# Altium footprint library Texas Instruments Footprints.PcbLib: 429 footprints (part 14 of 32)
Each footprint in its own frame and in the unit in brackets; x right, y up, seen from the top. Pads: shape width x height; smd on the part's side, far side on the other; paste and mask are expansions set on the pad; w line width, h text height; cw(c..) or ccw(c..) is an arc to the next point about the centre after c.
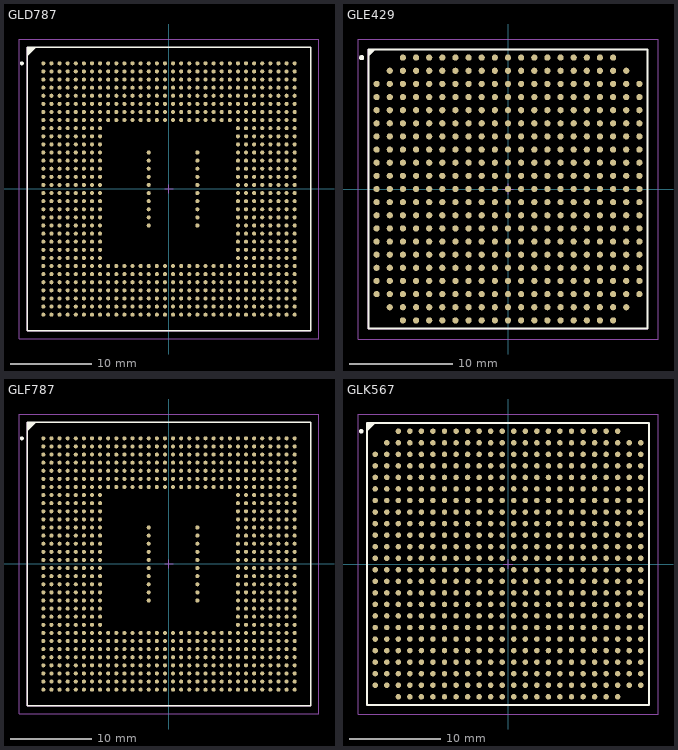
[diagram p13: the footprints below, top view; thin cyan lines are the x and y axes]

## GLD787 [mm] "772-Ball Ball Grid Array 1 mm Pitch"
height 3.48
pads (772):
  round 0.5 smd: A1(-15.5,15.5) A2(-14.5,15.5) A3(-13.5,15.5) A4(-12.5,15.5) A5(-11.5,15.5) A6(-10.5,15.5) A7(-9.5,15.5) A8(-8.5,15.5) A9(-7.5,15.5) A10(-6.5,15.5) A11(-5.5,15.5) A12(-4.5,15.5) A13(-3.5,15.5) A14(-2.5,15.5) A15(-1.5,15.5) A16(-0.5,15.5) A17(0.5,15.5) A18(1.5,15.5) A19(2.5,15.5) A20(3.5,15.5) A21(4.5,15.5) A22(5.5,15.5) A23(6.5,15.5) A24(7.5,15.5) A25(8.5,15.5) A26(9.5,15.5) A27(10.5,15.5) A28(11.5,15.5) A29(12.5,15.5) A30(13.5,15.5) A31(14.5,15.5) A32(15.5,15.5) AA1(-15.5,-4.5) AA2(-14.5,-4.5) AA3(-13.5,-4.5) AA4(-12.5,-4.5) AA5(-11.5,-4.5) AA6(-10.5,-4.5) AA7(-9.5,-4.5) AA8(-8.5,-4.5) AA14(-2.5,-4.5) AA20(3.5,-4.5) AA25(8.5,-4.5) AA26(9.5,-4.5) AA27(10.5,-4.5) AA28(11.5,-4.5) AA29(12.5,-4.5) AA30(13.5,-4.5) AA31(14.5,-4.5) AA32(15.5,-4.5) AB1(-15.5,-5.5) AB2(-14.5,-5.5) AB3(-13.5,-5.5) AB4(-12.5,-5.5) AB5(-11.5,-5.5) AB6(-10.5,-5.5) AB7(-9.5,-5.5) AB8(-8.5,-5.5) AB25(8.5,-5.5) AB26(9.5,-5.5) AB27(10.5,-5.5) AB28(11.5,-5.5) AB29(12.5,-5.5) AB30(13.5,-5.5) AB31(14.5,-5.5) AB32(15.5,-5.5) AC1(-15.5,-6.5) AC2(-14.5,-6.5) AC3(-13.5,-6.5) AC4(-12.5,-6.5) AC5(-11.5,-6.5) AC6(-10.5,-6.5) AC7(-9.5,-6.5) AC8(-8.5,-6.5) AC25(8.5,-6.5) AC26(9.5,-6.5) AC27(10.5,-6.5) AC28(11.5,-6.5) AC29(12.5,-6.5) AC30(13.5,-6.5) AC31(14.5,-6.5) AC32(15.5,-6.5) AD1(-15.5,-7.5) AD2(-14.5,-7.5) AD3(-13.5,-7.5) AD4(-12.5,-7.5) AD5(-11.5,-7.5) AD6(-10.5,-7.5) AD7(-9.5,-7.5) AD8(-8.5,-7.5) AD25(8.5,-7.5) AD26(9.5,-7.5) AD27(10.5,-7.5) AD28(11.5,-7.5) AD29(12.5,-7.5) AD30(13.5,-7.5) AD31(14.5,-7.5) AD32(15.5,-7.5) AE1(-15.5,-8.5) AE2(-14.5,-8.5) AE3(-13.5,-8.5) AE4(-12.5,-8.5) AE5(-11.5,-8.5) AE6(-10.5,-8.5) AE7(-9.5,-8.5) AE8(-8.5,-8.5) AE25(8.5,-8.5) AE26(9.5,-8.5) AE27(10.5,-8.5) AE28(11.5,-8.5) AE29(12.5,-8.5) AE30(13.5,-8.5) AE31(14.5,-8.5) AE32(15.5,-8.5) AF1(-15.5,-9.5) AF2(-14.5,-9.5) AF3(-13.5,-9.5) AF4(-12.5,-9.5) AF5(-11.5,-9.5) AF6(-10.5,-9.5) AF7(-9.5,-9.5) AF8(-8.5,-9.5) AF9(-7.5,-9.5) AF10(-6.5,-9.5) AF11(-5.5,-9.5) AF12(-4.5,-9.5) AF13(-3.5,-9.5) AF14(-2.5,-9.5) AF15(-1.5,-9.5) AF16(-0.5,-9.5) AF17(0.5,-9.5) AF18(1.5,-9.5) AF19(2.5,-9.5) AF20(3.5,-9.5) AF21(4.5,-9.5) AF22(5.5,-9.5) AF23(6.5,-9.5) AF24(7.5,-9.5) AF25(8.5,-9.5) AF26(9.5,-9.5) AF27(10.5,-9.5) AF28(11.5,-9.5) AF29(12.5,-9.5) AF30(13.5,-9.5) AF31(14.5,-9.5) AF32(15.5,-9.5) AG1(-15.5,-10.5) AG2(-14.5,-10.5) AG3(-13.5,-10.5) AG4(-12.5,-10.5) AG5(-11.5,-10.5) AG6(-10.5,-10.5) AG7(-9.5,-10.5) AG8(-8.5,-10.5) AG9(-7.5,-10.5) AG10(-6.5,-10.5) AG11(-5.5,-10.5) AG12(-4.5,-10.5) AG13(-3.5,-10.5) AG14(-2.5,-10.5) AG15(-1.5,-10.5) AG16(-0.5,-10.5) AG17(0.5,-10.5) AG18(1.5,-10.5) AG19(2.5,-10.5) AG20(3.5,-10.5) AG21(4.5,-10.5) AG22(5.5,-10.5) AG23(6.5,-10.5) AG24(7.5,-10.5) AG25(8.5,-10.5) AG26(9.5,-10.5) AG27(10.5,-10.5) AG28(11.5,-10.5) AG29(12.5,-10.5) AG30(13.5,-10.5) AG31(14.5,-10.5) AG32(15.5,-10.5) AH1(-15.5,-11.5) AH2(-14.5,-11.5) AH3(-13.5,-11.5) AH4(-12.5,-11.5) AH5(-11.5,-11.5) AH6(-10.5,-11.5) AH7(-9.5,-11.5) AH8(-8.5,-11.5) AH9(-7.5,-11.5) AH10(-6.5,-11.5) AH11(-5.5,-11.5) AH12(-4.5,-11.5) AH13(-3.5,-11.5) AH14(-2.5,-11.5) AH15(-1.5,-11.5) AH16(-0.5,-11.5) AH17(0.5,-11.5) AH18(1.5,-11.5) AH19(2.5,-11.5) AH20(3.5,-11.5) AH21(4.5,-11.5) AH22(5.5,-11.5) AH23(6.5,-11.5) AH24(7.5,-11.5) AH25(8.5,-11.5) AH26(9.5,-11.5) AH27(10.5,-11.5) AH28(11.5,-11.5) AH29(12.5,-11.5) AH30(13.5,-11.5) AH31(14.5,-11.5) AH32(15.5,-11.5) AJ1(-15.5,-12.5) AJ2(-14.5,-12.5) AJ3(-13.5,-12.5) AJ4(-12.5,-12.5) AJ5(-11.5,-12.5) AJ6(-10.5,-12.5) AJ7(-9.5,-12.5) AJ8(-8.5,-12.5) AJ9(-7.5,-12.5) AJ10(-6.5,-12.5) AJ11(-5.5,-12.5) AJ12(-4.5,-12.5) AJ13(-3.5,-12.5) AJ14(-2.5,-12.5) AJ15(-1.5,-12.5) AJ16(-0.5,-12.5) AJ17(0.5,-12.5) AJ18(1.5,-12.5) AJ19(2.5,-12.5) AJ20(3.5,-12.5) AJ21(4.5,-12.5) AJ22(5.5,-12.5) AJ23(6.5,-12.5) AJ24(7.5,-12.5) AJ25(8.5,-12.5) AJ26(9.5,-12.5) AJ27(10.5,-12.5) AJ28(11.5,-12.5) AJ29(12.5,-12.5) AJ30(13.5,-12.5) AJ31(14.5,-12.5) AJ32(15.5,-12.5) AK1(-15.5,-13.5) AK2(-14.5,-13.5) AK3(-13.5,-13.5) AK4(-12.5,-13.5) AK5(-11.5,-13.5) AK6(-10.5,-13.5) AK7(-9.5,-13.5) AK8(-8.5,-13.5) AK9(-7.5,-13.5) AK10(-6.5,-13.5) AK11(-5.5,-13.5) AK12(-4.5,-13.5) AK13(-3.5,-13.5) AK14(-2.5,-13.5) AK15(-1.5,-13.5) AK16(-0.5,-13.5) AK17(0.5,-13.5) AK18(1.5,-13.5) AK19(2.5,-13.5) AK20(3.5,-13.5) AK21(4.5,-13.5) AK22(5.5,-13.5) AK23(6.5,-13.5) AK24(7.5,-13.5) AK25(8.5,-13.5) AK26(9.5,-13.5) AK27(10.5,-13.5) AK28(11.5,-13.5) AK29(12.5,-13.5) AK30(13.5,-13.5) AK31(14.5,-13.5) AK32(15.5,-13.5) AL1(-15.5,-14.5) AL2(-14.5,-14.5) AL3(-13.5,-14.5) AL4(-12.5,-14.5) AL5(-11.5,-14.5) AL6(-10.5,-14.5) AL7(-9.5,-14.5) AL8(-8.5,-14.5) AL9(-7.5,-14.5) AL10(-6.5,-14.5) AL11(-5.5,-14.5) AL12(-4.5,-14.5) AL13(-3.5,-14.5) AL14(-2.5,-14.5) AL15(-1.5,-14.5) AL16(-0.5,-14.5) AL17(0.5,-14.5) AL18(1.5,-14.5) AL19(2.5,-14.5) AL20(3.5,-14.5) AL21(4.5,-14.5) AL22(5.5,-14.5) AL23(6.5,-14.5) AL24(7.5,-14.5) AL25(8.5,-14.5) AL26(9.5,-14.5) AL27(10.5,-14.5) AL28(11.5,-14.5) AL29(12.5,-14.5) AL30(13.5,-14.5) AL31(14.5,-14.5) AL32(15.5,-14.5) AM1(-15.5,-15.5) AM2(-14.5,-15.5) AM3(-13.5,-15.5) AM4(-12.5,-15.5) AM5(-11.5,-15.5) AM6(-10.5,-15.5) AM7(-9.5,-15.5) AM8(-8.5,-15.5) AM9(-7.5,-15.5) AM10(-6.5,-15.5) AM11(-5.5,-15.5) AM12(-4.5,-15.5) AM13(-3.5,-15.5) AM14(-2.5,-15.5) AM15(-1.5,-15.5) AM16(-0.5,-15.5) AM17(0.5,-15.5) AM18(1.5,-15.5) AM19(2.5,-15.5) AM20(3.5,-15.5) AM21(4.5,-15.5) AM22(5.5,-15.5) AM23(6.5,-15.5) AM24(7.5,-15.5) AM25(8.5,-15.5) AM26(9.5,-15.5) AM27(10.5,-15.5) AM28(11.5,-15.5) AM29(12.5,-15.5) AM30(13.5,-15.5) AM31(14.5,-15.5) AM32(15.5,-15.5) B1(-15.5,14.5) B2(-14.5,14.5) B3(-13.5,14.5) B4(-12.5,14.5) B5(-11.5,14.5) B6(-10.5,14.5) B7(-9.5,14.5) B8(-8.5,14.5) B9(-7.5,14.5) B10(-6.5,14.5) B11(-5.5,14.5) B12(-4.5,14.5) B13(-3.5,14.5) B14(-2.5,14.5) B15(-1.5,14.5) B16(-0.5,14.5) B17(0.5,14.5) B18(1.5,14.5) B19(2.5,14.5) B20(3.5,14.5) B21(4.5,14.5) B22(5.5,14.5) B23(6.5,14.5) B24(7.5,14.5) B25(8.5,14.5) B26(9.5,14.5) B27(10.5,14.5) B28(11.5,14.5) B29(12.5,14.5) B30(13.5,14.5) B31(14.5,14.5) B32(15.5,14.5) C1(-15.5,13.5) C2(-14.5,13.5) C3(-13.5,13.5) C4(-12.5,13.5) C5(-11.5,13.5) C6(-10.5,13.5) C7(-9.5,13.5) C8(-8.5,13.5) C9(-7.5,13.5) C10(-6.5,13.5) C11(-5.5,13.5) C12(-4.5,13.5) C13(-3.5,13.5) C14(-2.5,13.5) C15(-1.5,13.5) C16(-0.5,13.5) C17(0.5,13.5) C18(1.5,13.5) C19(2.5,13.5) C20(3.5,13.5) C21(4.5,13.5) C22(5.5,13.5) C23(6.5,13.5) C24(7.5,13.5) C25(8.5,13.5) C26(9.5,13.5) C27(10.5,13.5) C28(11.5,13.5) C29(12.5,13.5) C30(13.5,13.5) C31(14.5,13.5) C32(15.5,13.5) D1(-15.5,12.5) D2(-14.5,12.5) D3(-13.5,12.5) D4(-12.5,12.5) D5(-11.5,12.5) D6(-10.5,12.5) D7(-9.5,12.5) D8(-8.5,12.5) D9(-7.5,12.5) D10(-6.5,12.5) D11(-5.5,12.5) D12(-4.5,12.5) D13(-3.5,12.5) D14(-2.5,12.5) D15(-1.5,12.5) D16(-0.5,12.5) D17(0.5,12.5) D18(1.5,12.5) D19(2.5,12.5) D20(3.5,12.5) D21(4.5,12.5) D22(5.5,12.5) D23(6.5,12.5) D24(7.5,12.5) D25(8.5,12.5) D26(9.5,12.5) D27(10.5,12.5) D28(11.5,12.5) D29(12.5,12.5) D30(13.5,12.5) D31(14.5,12.5) D32(15.5,12.5) E1(-15.5,11.5) E2(-14.5,11.5) E3(-13.5,11.5) E4(-12.5,11.5) E5(-11.5,11.5) E6(-10.5,11.5) E7(-9.5,11.5) E8(-8.5,11.5) E9(-7.5,11.5) E10(-6.5,11.5) E11(-5.5,11.5) E12(-4.5,11.5) E13(-3.5,11.5) E14(-2.5,11.5) E15(-1.5,11.5) E16(-0.5,11.5) E17(0.5,11.5) E18(1.5,11.5) E19(2.5,11.5) E20(3.5,11.5) E21(4.5,11.5) E22(5.5,11.5) E23(6.5,11.5) E24(7.5,11.5) E25(8.5,11.5) E26(9.5,11.5) E27(10.5,11.5) E28(11.5,11.5) E29(12.5,11.5) E30(13.5,11.5) E31(14.5,11.5) E32(15.5,11.5) F1(-15.5,10.5) F2(-14.5,10.5) F3(-13.5,10.5) F4(-12.5,10.5) F5(-11.5,10.5) F6(-10.5,10.5) F7(-9.5,10.5) F8(-8.5,10.5) F9(-7.5,10.5) F10(-6.5,10.5) F11(-5.5,10.5) F12(-4.5,10.5) F13(-3.5,10.5) F14(-2.5,10.5) F15(-1.5,10.5) F16(-0.5,10.5) F17(0.5,10.5) F18(1.5,10.5) F19(2.5,10.5) F20(3.5,10.5) F21(4.5,10.5) F22(5.5,10.5) F23(6.5,10.5) F24(7.5,10.5) F25(8.5,10.5) F26(9.5,10.5) F27(10.5,10.5) F28(11.5,10.5) F29(12.5,10.5) F30(13.5,10.5) F31(14.5,10.5) F32(15.5,10.5) G1(-15.5,9.5) G2(-14.5,9.5) G3(-13.5,9.5) G4(-12.5,9.5) G5(-11.5,9.5) G6(-10.5,9.5) G7(-9.5,9.5) G8(-8.5,9.5) G9(-7.5,9.5) G10(-6.5,9.5) G11(-5.5,9.5) G12(-4.5,9.5) G13(-3.5,9.5) G14(-2.5,9.5) G15(-1.5,9.5) G16(-0.5,9.5) G17(0.5,9.5) G18(1.5,9.5) G19(2.5,9.5) G20(3.5,9.5) G21(4.5,9.5) G22(5.5,9.5) G23(6.5,9.5) G24(7.5,9.5) G25(8.5,9.5) G26(9.5,9.5) G27(10.5,9.5) G28(11.5,9.5) G29(12.5,9.5) G30(13.5,9.5) G31(14.5,9.5) G32(15.5,9.5) H1(-15.5,8.5) H2(-14.5,8.5) H3(-13.5,8.5) H4(-12.5,8.5) H5(-11.5,8.5) H6(-10.5,8.5) H7(-9.5,8.5) H8(-8.5,8.5) H9(-7.5,8.5) H10(-6.5,8.5) H11(-5.5,8.5) H12(-4.5,8.5) H13(-3.5,8.5) H14(-2.5,8.5) H15(-1.5,8.5) H16(-0.5,8.5) H17(0.5,8.5) H18(1.5,8.5) H19(2.5,8.5) H20(3.5,8.5) H21(4.5,8.5) H22(5.5,8.5) H23(6.5,8.5) H24(7.5,8.5) H25(8.5,8.5) H26(9.5,8.5) H27(10.5,8.5) H28(11.5,8.5) H29(12.5,8.5) H30(13.5,8.5) H31(14.5,8.5) H32(15.5,8.5) J1(-15.5,7.5) J2(-14.5,7.5) J3(-13.5,7.5) J4(-12.5,7.5) J5(-11.5,7.5) J6(-10.5,7.5) J7(-9.5,7.5) J8(-8.5,7.5) J25(8.5,7.5) J26(9.5,7.5) J27(10.5,7.5) J28(11.5,7.5) J29(12.5,7.5) J30(13.5,7.5) J31(14.5,7.5) J32(15.5,7.5) K1(-15.5,6.5) K2(-14.5,6.5) K3(-13.5,6.5) K4(-12.5,6.5) K5(-11.5,6.5) K6(-10.5,6.5) K7(-9.5,6.5) K8(-8.5,6.5) K25(8.5,6.5) K26(9.5,6.5) K27(10.5,6.5) K28(11.5,6.5) K29(12.5,6.5) K30(13.5,6.5) K31(14.5,6.5) K32(15.5,6.5) L1(-15.5,5.5) L2(-14.5,5.5) L3(-13.5,5.5) L4(-12.5,5.5) L5(-11.5,5.5) L6(-10.5,5.5) L7(-9.5,5.5) L8(-8.5,5.5) L25(8.5,5.5) L26(9.5,5.5) L27(10.5,5.5) L28(11.5,5.5) L29(12.5,5.5) L30(13.5,5.5) L31(14.5,5.5) L32(15.5,5.5) M1(-15.5,4.5) M2(-14.5,4.5) M3(-13.5,4.5) M4(-12.5,4.5) M5(-11.5,4.5) M6(-10.5,4.5) M7(-9.5,4.5) M8(-8.5,4.5) M14(-2.5,4.5) M20(3.5,4.5) M25(8.5,4.5) M26(9.5,4.5) M27(10.5,4.5) M28(11.5,4.5) M29(12.5,4.5) M30(13.5,4.5) M31(14.5,4.5) M32(15.5,4.5) N1(-15.5,3.5) N2(-14.5,3.5) N3(-13.5,3.5) N4(-12.5,3.5) N5(-11.5,3.5) N6(-10.5,3.5) N7(-9.5,3.5) N8(-8.5,3.5) N14(-2.5,3.5) N20(3.5,3.5) N25(8.5,3.5) N26(9.5,3.5) N27(10.5,3.5) N28(11.5,3.5) N29(12.5,3.5) N30(13.5,3.5) N31(14.5,3.5) N32(15.5,3.5) P1(-15.5,2.5) P2(-14.5,2.5) P3(-13.5,2.5) P4(-12.5,2.5) P5(-11.5,2.5) P6(-10.5,2.5) P7(-9.5,2.5) P8(-8.5,2.5) P14(-2.5,2.5) P20(3.5,2.5) P25(8.5,2.5) P26(9.5,2.5) P27(10.5,2.5) P28(11.5,2.5) P29(12.5,2.5) P30(13.5,2.5) P31(14.5,2.5) P32(15.5,2.5) R1(-15.5,1.5) R2(-14.5,1.5) R3(-13.5,1.5) R4(-12.5,1.5) R5(-11.5,1.5) R6(-10.5,1.5) R7(-9.5,1.5) R8(-8.5,1.5) R14(-2.5,1.5) R20(3.5,1.5) R25(8.5,1.5) R26(9.5,1.5) R27(10.5,1.5) R28(11.5,1.5) R29(12.5,1.5) R30(13.5,1.5) R31(14.5,1.5) R32(15.5,1.5) T1(-15.5,0.5) T2(-14.5,0.5) T3(-13.5,0.5) T4(-12.5,0.5) T5(-11.5,0.5) T6(-10.5,0.5) T7(-9.5,0.5) T8(-8.5,0.5) T14(-2.5,0.5) T20(3.5,0.5) T25(8.5,0.5) T26(9.5,0.5) T27(10.5,0.5) T28(11.5,0.5) T29(12.5,0.5) T30(13.5,0.5) T31(14.5,0.5) T32(15.5,0.5) U1(-15.5,-0.5) U2(-14.5,-0.5) U3(-13.5,-0.5) U4(-12.5,-0.5) U5(-11.5,-0.5) U6(-10.5,-0.5) U7(-9.5,-0.5) U8(-8.5,-0.5) U14(-2.5,-0.5) U20(3.5,-0.5) U25(8.5,-0.5) U26(9.5,-0.5) U27(10.5,-0.5) U28(11.5,-0.5) U29(12.5,-0.5) U30(13.5,-0.5) U31(14.5,-0.5) U32(15.5,-0.5) V1(-15.5,-1.5) V2(-14.5,-1.5) V3(-13.5,-1.5) V4(-12.5,-1.5) V5(-11.5,-1.5) V6(-10.5,-1.5) V7(-9.5,-1.5) V8(-8.5,-1.5) V14(-2.5,-1.5) V20(3.5,-1.5) V25(8.5,-1.5) V26(9.5,-1.5) V27(10.5,-1.5) V28(11.5,-1.5) V29(12.5,-1.5) V30(13.5,-1.5) V31(14.5,-1.5) V32(15.5,-1.5) W1(-15.5,-2.5) W2(-14.5,-2.5) W3(-13.5,-2.5) W4(-12.5,-2.5) W5(-11.5,-2.5) W6(-10.5,-2.5) W7(-9.5,-2.5) W8(-8.5,-2.5) W14(-2.5,-2.5) W20(3.5,-2.5) W25(8.5,-2.5) W26(9.5,-2.5) W27(10.5,-2.5) W28(11.5,-2.5) W29(12.5,-2.5) W30(13.5,-2.5) W31(14.5,-2.5) W32(15.5,-2.5) Y1(-15.5,-3.5) Y2(-14.5,-3.5) Y3(-13.5,-3.5) Y4(-12.5,-3.5) Y5(-11.5,-3.5) Y6(-10.5,-3.5) Y7(-9.5,-3.5) Y8(-8.5,-3.5) Y14(-2.5,-3.5) Y20(3.5,-3.5) Y25(8.5,-3.5) Y26(9.5,-3.5) Y27(10.5,-3.5) Y28(11.5,-3.5) Y29(12.5,-3.5) Y30(13.5,-3.5) Y31(14.5,-3.5) Y32(15.5,-3.5)
Top Overlay:
  circle w0.25: c-18.15,15.5 r0.125
  region: -16.5,17.5 -17.5,16.5 -17.5,17.5
  lines w0.2: -17.5,16.5 -16.5,17.5 ; -17.5,-17.5 17.5,-17.5 17.5,17.5 -17.5,17.5 -17.5,-17.5
Mechanical 13:
  lines w0.1: -17.5,-17.5 17.5,-17.5 17.5,17.5 -17.5,17.5 -17.5,-17.5
Mechanical 15:
  lines w0.1: -0.5,0 0.5,0 ; 0,-0.5 0,0.5 ; -18.5,-18.5 18.5,-18.5 18.5,18.5 -18.5,18.5 -18.5,-18.5
3D body: height 3.48, standoff 0, extent -17.5,-17.5 17.5,17.5

## GLE429 [mm] "429-Ball Ceramic Ball Grid Array 1.27 mm Pitch"
height 3.3
pads (429):
  round 0.6 smd: A3(-10.16,12.7) A4(-8.89,12.7) A5(-7.62,12.7) A6(-6.35,12.7) A7(-5.08,12.7) A8(-3.81,12.7) A9(-2.54,12.7) A10(-1.27,12.7) A11(0,12.7) A12(1.27,12.7) A13(2.54,12.7) A14(3.81,12.7) A15(5.08,12.7) A16(6.35,12.7) A17(7.62,12.7) A18(8.89,12.7) A19(10.16,12.7) AA3(-10.16,-12.7) AA4(-8.89,-12.7) AA5(-7.62,-12.7) AA6(-6.35,-12.7) AA7(-5.08,-12.7) AA8(-3.81,-12.7) AA9(-2.54,-12.7) AA10(-1.27,-12.7) AA11(0,-12.7) AA12(1.27,-12.7) AA13(2.54,-12.7) AA14(3.81,-12.7) AA15(5.08,-12.7) AA16(6.35,-12.7) AA17(7.62,-12.7) AA18(8.89,-12.7) AA19(10.16,-12.7) B2(-11.43,11.43) B3(-10.16,11.43) B4(-8.89,11.43) B5(-7.62,11.43) B6(-6.35,11.43) B7(-5.08,11.43) B8(-3.81,11.43) B9(-2.54,11.43) B10(-1.27,11.43) B11(0,11.43) B12(1.27,11.43) B13(2.54,11.43) B14(3.81,11.43) B15(5.08,11.43) B16(6.35,11.43) B17(7.62,11.43) B18(8.89,11.43) B19(10.16,11.43) B20(11.43,11.43) C1(-12.7,10.16) C2(-11.43,10.16) C3(-10.16,10.16) C4(-8.89,10.16) C5(-7.62,10.16) C6(-6.35,10.16) C7(-5.08,10.16) C8(-3.81,10.16) C9(-2.54,10.16) C10(-1.27,10.16) C11(0,10.16) C12(1.27,10.16) C13(2.54,10.16) C14(3.81,10.16) C15(5.08,10.16) C16(6.35,10.16) C17(7.62,10.16) C18(8.89,10.16) C19(10.16,10.16) C20(11.43,10.16) C21(12.7,10.16) D1(-12.7,8.89) D2(-11.43,8.89) D3(-10.16,8.89) D4(-8.89,8.89) D5(-7.62,8.89) D6(-6.35,8.89) D7(-5.08,8.89) D8(-3.81,8.89) D9(-2.54,8.89) D10(-1.27,8.89) D11(0,8.89) D12(1.27,8.89) D13(2.54,8.89) D14(3.81,8.89) D15(5.08,8.89) D16(6.35,8.89) D17(7.62,8.89) D18(8.89,8.89) D19(10.16,8.89) D20(11.43,8.89) D21(12.7,8.89) E1(-12.7,7.62) E2(-11.43,7.62) E3(-10.16,7.62) E4(-8.89,7.62) E5(-7.62,7.62) E6(-6.35,7.62) E7(-5.08,7.62) E8(-3.81,7.62) E9(-2.54,7.62) E10(-1.27,7.62) E11(0,7.62) E12(1.27,7.62) E13(2.54,7.62) E14(3.81,7.62) E15(5.08,7.62) E16(6.35,7.62) E17(7.62,7.62) E18(8.89,7.62) E19(10.16,7.62) E20(11.43,7.62) E21(12.7,7.62) F1(-12.7,6.35) F2(-11.43,6.35) F3(-10.16,6.35) F4(-8.89,6.35) F5(-7.62,6.35) F6(-6.35,6.35) F7(-5.08,6.35) F8(-3.81,6.35) F9(-2.54,6.35) F10(-1.27,6.35) F11(0,6.35) F12(1.27,6.35) F13(2.54,6.35) F14(3.81,6.35) F15(5.08,6.35) F16(6.35,6.35) F17(7.62,6.35) F18(8.89,6.35) F19(10.16,6.35) F20(11.43,6.35) F21(12.7,6.35) G1(-12.7,5.08) G2(-11.43,5.08) G3(-10.16,5.08) G4(-8.89,5.08) G5(-7.62,5.08) G6(-6.35,5.08) G7(-5.08,5.08) G8(-3.81,5.08) G9(-2.54,5.08) G10(-1.27,5.08) G11(0,5.08) G12(1.27,5.08) G13(2.54,5.08) G14(3.81,5.08) G15(5.08,5.08) G16(6.35,5.08) G17(7.62,5.08) G18(8.89,5.08) G19(10.16,5.08) G20(11.43,5.08) G21(12.7,5.08) H1(-12.7,3.81) H2(-11.43,3.81) H3(-10.16,3.81) H4(-8.89,3.81) H5(-7.62,3.81) H6(-6.35,3.81) H7(-5.08,3.81) H8(-3.81,3.81) H9(-2.54,3.81) H10(-1.27,3.81) H11(0,3.81) H12(1.27,3.81) H13(2.54,3.81) H14(3.81,3.81) H15(5.08,3.81) H16(6.35,3.81) H17(7.62,3.81) H18(8.89,3.81) H19(10.16,3.81) H20(11.43,3.81) H21(12.7,3.81) J1(-12.7,2.54) J2(-11.43,2.54) J3(-10.16,2.54) J4(-8.89,2.54) J5(-7.62,2.54) J6(-6.35,2.54) J7(-5.08,2.54) J8(-3.81,2.54) J9(-2.54,2.54) J10(-1.27,2.54) J11(0,2.54) J12(1.27,2.54) J13(2.54,2.54) J14(3.81,2.54) J15(5.08,2.54) J16(6.35,2.54) J17(7.62,2.54) J18(8.89,2.54) J19(10.16,2.54) J20(11.43,2.54) J21(12.7,2.54) K1(-12.7,1.27) K2(-11.43,1.27) K3(-10.16,1.27) K4(-8.89,1.27) K5(-7.62,1.27) K6(-6.35,1.27) K7(-5.08,1.27) K8(-3.81,1.27) K9(-2.54,1.27) K10(-1.27,1.27) K11(0,1.27) K12(1.27,1.27) K13(2.54,1.27) K14(3.81,1.27) K15(5.08,1.27) K16(6.35,1.27) K17(7.62,1.27) K18(8.89,1.27) K19(10.16,1.27) K20(11.43,1.27) K21(12.7,1.27) L1(-12.7,0) L2(-11.43,0) L3(-10.16,0) L4(-8.89,0) L5(-7.62,0) L6(-6.35,0) L7(-5.08,0) L8(-3.81,0) L9(-2.54,0) L10(-1.27,0) L11(0,0) L12(1.27,0) L13(2.54,0) L14(3.81,0) L15(5.08,0) L16(6.35,0) L17(7.62,0) L18(8.89,0) L19(10.16,0) L20(11.43,0) L21(12.7,0) M1(-12.7,-1.27) M2(-11.43,-1.27) M3(-10.16,-1.27) M4(-8.89,-1.27) M5(-7.62,-1.27) M6(-6.35,-1.27) M7(-5.08,-1.27) M8(-3.81,-1.27) M9(-2.54,-1.27) M10(-1.27,-1.27) M11(0,-1.27) M12(1.27,-1.27) M13(2.54,-1.27) M14(3.81,-1.27) M15(5.08,-1.27) M16(6.35,-1.27) M17(7.62,-1.27) M18(8.89,-1.27) M19(10.16,-1.27) M20(11.43,-1.27) M21(12.7,-1.27) N1(-12.7,-2.54) N2(-11.43,-2.54) N3(-10.16,-2.54) N4(-8.89,-2.54) N5(-7.62,-2.54) N6(-6.35,-2.54) N7(-5.08,-2.54) N8(-3.81,-2.54) N9(-2.54,-2.54) N10(-1.27,-2.54) N11(0,-2.54) N12(1.27,-2.54) N13(2.54,-2.54) N14(3.81,-2.54) N15(5.08,-2.54) N16(6.35,-2.54) N17(7.62,-2.54) N18(8.89,-2.54) N19(10.16,-2.54) N20(11.43,-2.54) N21(12.7,-2.54) P1(-12.7,-3.81) P2(-11.43,-3.81) P3(-10.16,-3.81) P4(-8.89,-3.81) P5(-7.62,-3.81) P6(-6.35,-3.81) P7(-5.08,-3.81) P8(-3.81,-3.81) P9(-2.54,-3.81) P10(-1.27,-3.81) P11(0,-3.81) P12(1.27,-3.81) P13(2.54,-3.81) P14(3.81,-3.81) P15(5.08,-3.81) P16(6.35,-3.81) P17(7.62,-3.81) P18(8.89,-3.81) P19(10.16,-3.81) P20(11.43,-3.81) P21(12.7,-3.81) R1(-12.7,-5.08) R2(-11.43,-5.08) R3(-10.16,-5.08) R4(-8.89,-5.08) R5(-7.62,-5.08) R6(-6.35,-5.08) R7(-5.08,-5.08) R8(-3.81,-5.08) R9(-2.54,-5.08) R10(-1.27,-5.08) R11(0,-5.08) R12(1.27,-5.08) R13(2.54,-5.08) R14(3.81,-5.08) R15(5.08,-5.08) R16(6.35,-5.08) R17(7.62,-5.08) R18(8.89,-5.08) R19(10.16,-5.08) R20(11.43,-5.08) R21(12.7,-5.08) T1(-12.7,-6.35) T2(-11.43,-6.35) T3(-10.16,-6.35) T4(-8.89,-6.35) T5(-7.62,-6.35) T6(-6.35,-6.35) T7(-5.08,-6.35) T8(-3.81,-6.35) T9(-2.54,-6.35) T10(-1.27,-6.35) T11(0,-6.35) T12(1.27,-6.35) T13(2.54,-6.35) T14(3.81,-6.35) T15(5.08,-6.35) T16(6.35,-6.35) T17(7.62,-6.35) T18(8.89,-6.35) T19(10.16,-6.35) T20(11.43,-6.35) T21(12.7,-6.35) U1(-12.7,-7.62) U2(-11.43,-7.62) U3(-10.16,-7.62) U4(-8.89,-7.62) U5(-7.62,-7.62) U6(-6.35,-7.62) U7(-5.08,-7.62) U8(-3.81,-7.62) U9(-2.54,-7.62) U10(-1.27,-7.62) U11(0,-7.62) U12(1.27,-7.62) U13(2.54,-7.62) U14(3.81,-7.62) U15(5.08,-7.62) U16(6.35,-7.62) U17(7.62,-7.62) U18(8.89,-7.62) U19(10.16,-7.62) U20(11.43,-7.62) U21(12.7,-7.62) V1(-12.7,-8.89) V2(-11.43,-8.89) V3(-10.16,-8.89) V4(-8.89,-8.89) V5(-7.62,-8.89) V6(-6.35,-8.89) V7(-5.08,-8.89) V8(-3.81,-8.89) V9(-2.54,-8.89) V10(-1.27,-8.89) V11(0,-8.89) V12(1.27,-8.89) V13(2.54,-8.89) V14(3.81,-8.89) V15(5.08,-8.89) V16(6.35,-8.89) V17(7.62,-8.89) V18(8.89,-8.89) V19(10.16,-8.89) V20(11.43,-8.89) V21(12.7,-8.89) W1(-12.7,-10.16) W2(-11.43,-10.16) W3(-10.16,-10.16) W4(-8.89,-10.16) W5(-7.62,-10.16) W6(-6.35,-10.16) W7(-5.08,-10.16) W8(-3.81,-10.16) W9(-2.54,-10.16) W10(-1.27,-10.16) W11(0,-10.16) W12(1.27,-10.16) W13(2.54,-10.16) W14(3.81,-10.16) W15(5.08,-10.16) W16(6.35,-10.16) W17(7.62,-10.16) W18(8.89,-10.16) W19(10.16,-10.16) W20(11.43,-10.16) W21(12.7,-10.16) Y2(-11.43,-11.43) Y3(-10.16,-11.43) Y4(-8.89,-11.43) Y5(-7.62,-11.43) Y6(-6.35,-11.43) Y7(-5.08,-11.43) Y8(-3.81,-11.43) Y9(-2.54,-11.43) Y10(-1.27,-11.43) Y11(0,-11.43) Y12(1.27,-11.43) Y13(2.54,-11.43) Y14(3.81,-11.43) Y15(5.08,-11.43) Y16(6.35,-11.43) Y17(7.62,-11.43) Y18(8.89,-11.43) Y19(10.16,-11.43) Y20(11.43,-11.43)
Top Overlay:
  circle w0.25: c-14.15,12.7 r0.125
  region: -12.89,13.5 -13.5,12.89 -13.5,13.5
  lines w0.2: -13.5,12.89 -12.89,13.5 ; -13.5,-13.5 -13.5,13.5 13.5,13.5 13.5,-13.5 -13.5,-13.5
Mechanical 13:
  lines w0.1: -13.5,-13.5 -13.5,13.5 13.5,13.5 13.5,-13.5 -13.5,-13.5
Mechanical 15:
  lines w0.1: -0.5,0 0.5,0 ; 0,-0.5 0,0.5 ; -14.5,-14.5 -14.5,14.5 14.5,14.5 14.5,-14.5 -14.5,-14.5
3D body: height 3.3, standoff 0, extent -13.5,-13.5 13.5,13.5

## GLF787 [mm] "772-Ball Ball Grid Array 1 mm Pitch"
height 3.6
pads (772):
  round 0.5 smd: A1(-15.5,15.5) A2(-14.5,15.5) A3(-13.5,15.5) A4(-12.5,15.5) A5(-11.5,15.5) A6(-10.5,15.5) A7(-9.5,15.5) A8(-8.5,15.5) A9(-7.5,15.5) A10(-6.5,15.5) A11(-5.5,15.5) A12(-4.5,15.5) A13(-3.5,15.5) A14(-2.5,15.5) A15(-1.5,15.5) A16(-0.5,15.5) A17(0.5,15.5) A18(1.5,15.5) A19(2.5,15.5) A20(3.5,15.5) A21(4.5,15.5) A22(5.5,15.5) A23(6.5,15.5) A24(7.5,15.5) A25(8.5,15.5) A26(9.5,15.5) A27(10.5,15.5) A28(11.5,15.5) A29(12.5,15.5) A30(13.5,15.5) A31(14.5,15.5) A32(15.5,15.5) AA1(-15.5,-4.5) AA2(-14.5,-4.5) AA3(-13.5,-4.5) AA4(-12.5,-4.5) AA5(-11.5,-4.5) AA6(-10.5,-4.5) AA7(-9.5,-4.5) AA8(-8.5,-4.5) AA14(-2.5,-4.5) AA20(3.5,-4.5) AA25(8.5,-4.5) AA26(9.5,-4.5) AA27(10.5,-4.5) AA28(11.5,-4.5) AA29(12.5,-4.5) AA30(13.5,-4.5) AA31(14.5,-4.5) AA32(15.5,-4.5) AB1(-15.5,-5.5) AB2(-14.5,-5.5) AB3(-13.5,-5.5) AB4(-12.5,-5.5) AB5(-11.5,-5.5) AB6(-10.5,-5.5) AB7(-9.5,-5.5) AB8(-8.5,-5.5) AB25(8.5,-5.5) AB26(9.5,-5.5) AB27(10.5,-5.5) AB28(11.5,-5.5) AB29(12.5,-5.5) AB30(13.5,-5.5) AB31(14.5,-5.5) AB32(15.5,-5.5) AC1(-15.5,-6.5) AC2(-14.5,-6.5) AC3(-13.5,-6.5) AC4(-12.5,-6.5) AC5(-11.5,-6.5) AC6(-10.5,-6.5) AC7(-9.5,-6.5) AC8(-8.5,-6.5) AC25(8.5,-6.5) AC26(9.5,-6.5) AC27(10.5,-6.5) AC28(11.5,-6.5) AC29(12.5,-6.5) AC30(13.5,-6.5) AC31(14.5,-6.5) AC32(15.5,-6.5) AD1(-15.5,-7.5) AD2(-14.5,-7.5) AD3(-13.5,-7.5) AD4(-12.5,-7.5) AD5(-11.5,-7.5) AD6(-10.5,-7.5) AD7(-9.5,-7.5) AD8(-8.5,-7.5) AD25(8.5,-7.5) AD26(9.5,-7.5) AD27(10.5,-7.5) AD28(11.5,-7.5) AD29(12.5,-7.5) AD30(13.5,-7.5) AD31(14.5,-7.5) AD32(15.5,-7.5) AE1(-15.5,-8.5) AE2(-14.5,-8.5) AE3(-13.5,-8.5) AE4(-12.5,-8.5) AE5(-11.5,-8.5) AE6(-10.5,-8.5) AE7(-9.5,-8.5) AE8(-8.5,-8.5) AE9(-7.5,-8.5) AE10(-6.5,-8.5) AE11(-5.5,-8.5) AE12(-4.5,-8.5) AE13(-3.5,-8.5) AE14(-2.5,-8.5) AE15(-1.5,-8.5) AE16(-0.5,-8.5) AE17(0.5,-8.5) AE18(1.5,-8.5) AE19(2.5,-8.5) AE20(3.5,-8.5) AE21(4.5,-8.5) AE22(5.5,-8.5) AE23(6.5,-8.5) AE24(7.5,-8.5) AE25(8.5,-8.5) AE26(9.5,-8.5) AE27(10.5,-8.5) AE28(11.5,-8.5) AE29(12.5,-8.5) AE30(13.5,-8.5) AE31(14.5,-8.5) AE32(15.5,-8.5) AF1(-15.5,-9.5) AF2(-14.5,-9.5) AF3(-13.5,-9.5) AF4(-12.5,-9.5) AF5(-11.5,-9.5) AF6(-10.5,-9.5) AF7(-9.5,-9.5) AF8(-8.5,-9.5) AF9(-7.5,-9.5) AF10(-6.5,-9.5) AF11(-5.5,-9.5) AF12(-4.5,-9.5) AF13(-3.5,-9.5) AF14(-2.5,-9.5) AF15(-1.5,-9.5) AF16(-0.5,-9.5) AF17(0.5,-9.5) AF18(1.5,-9.5) AF19(2.5,-9.5) AF20(3.5,-9.5) AF21(4.5,-9.5) AF22(5.5,-9.5) AF23(6.5,-9.5) AF24(7.5,-9.5) AF25(8.5,-9.5) AF26(9.5,-9.5) AF27(10.5,-9.5) AF28(11.5,-9.5) AF29(12.5,-9.5) AF30(13.5,-9.5) AF31(14.5,-9.5) AF32(15.5,-9.5) AG1(-15.5,-10.5) AG2(-14.5,-10.5) AG3(-13.5,-10.5) AG4(-12.5,-10.5) AG5(-11.5,-10.5) AG6(-10.5,-10.5) AG7(-9.5,-10.5) AG8(-8.5,-10.5) AG9(-7.5,-10.5) AG10(-6.5,-10.5) AG11(-5.5,-10.5) AG12(-4.5,-10.5) AG13(-3.5,-10.5) AG14(-2.5,-10.5) AG15(-1.5,-10.5) AG16(-0.5,-10.5) AG17(0.5,-10.5) AG18(1.5,-10.5) AG19(2.5,-10.5) AG20(3.5,-10.5) AG21(4.5,-10.5) AG22(5.5,-10.5) AG23(6.5,-10.5) AG24(7.5,-10.5) AG25(8.5,-10.5) AG26(9.5,-10.5) AG27(10.5,-10.5) AG28(11.5,-10.5) AG29(12.5,-10.5) AG30(13.5,-10.5) AG31(14.5,-10.5) AG32(15.5,-10.5) AH1(-15.5,-11.5) AH2(-14.5,-11.5) AH3(-13.5,-11.5) AH4(-12.5,-11.5) AH5(-11.5,-11.5) AH6(-10.5,-11.5) AH7(-9.5,-11.5) AH8(-8.5,-11.5) AH9(-7.5,-11.5) AH10(-6.5,-11.5) AH11(-5.5,-11.5) AH12(-4.5,-11.5) AH13(-3.5,-11.5) AH14(-2.5,-11.5) AH15(-1.5,-11.5) AH16(-0.5,-11.5) AH17(0.5,-11.5) AH18(1.5,-11.5) AH19(2.5,-11.5) AH20(3.5,-11.5) AH21(4.5,-11.5) AH22(5.5,-11.5) AH23(6.5,-11.5) AH24(7.5,-11.5) AH25(8.5,-11.5) AH26(9.5,-11.5) AH27(10.5,-11.5) AH28(11.5,-11.5) AH29(12.5,-11.5) AH30(13.5,-11.5) AH31(14.5,-11.5) AH32(15.5,-11.5) AJ1(-15.5,-12.5) AJ2(-14.5,-12.5) AJ3(-13.5,-12.5) AJ4(-12.5,-12.5) AJ5(-11.5,-12.5) AJ6(-10.5,-12.5) AJ7(-9.5,-12.5) AJ8(-8.5,-12.5) AJ9(-7.5,-12.5) AJ10(-6.5,-12.5) AJ11(-5.5,-12.5) AJ12(-4.5,-12.5) AJ13(-3.5,-12.5) AJ14(-2.5,-12.5) AJ15(-1.5,-12.5) AJ16(-0.5,-12.5) AJ17(0.5,-12.5) AJ18(1.5,-12.5) AJ19(2.5,-12.5) AJ20(3.5,-12.5) AJ21(4.5,-12.5) AJ22(5.5,-12.5) AJ23(6.5,-12.5) AJ24(7.5,-12.5) AJ25(8.5,-12.5) AJ26(9.5,-12.5) AJ27(10.5,-12.5) AJ28(11.5,-12.5) AJ29(12.5,-12.5) AJ30(13.5,-12.5) AJ31(14.5,-12.5) AJ32(15.5,-12.5) AK1(-15.5,-13.5) AK2(-14.5,-13.5) AK3(-13.5,-13.5) AK4(-12.5,-13.5) AK5(-11.5,-13.5) AK6(-10.5,-13.5) AK7(-9.5,-13.5) AK8(-8.5,-13.5) AK9(-7.5,-13.5) AK10(-6.5,-13.5) AK11(-5.5,-13.5) AK12(-4.5,-13.5) AK13(-3.5,-13.5) AK14(-2.5,-13.5) AK15(-1.5,-13.5) AK16(-0.5,-13.5) AK17(0.5,-13.5) AK18(1.5,-13.5) AK19(2.5,-13.5) AK20(3.5,-13.5) AK21(4.5,-13.5) AK22(5.5,-13.5) AK23(6.5,-13.5) AK24(7.5,-13.5) AK25(8.5,-13.5) AK26(9.5,-13.5) AK27(10.5,-13.5) AK28(11.5,-13.5) AK29(12.5,-13.5) AK30(13.5,-13.5) AK31(14.5,-13.5) AK32(15.5,-13.5) AL1(-15.5,-14.5) AL2(-14.5,-14.5) AL3(-13.5,-14.5) AL4(-12.5,-14.5) AL5(-11.5,-14.5) AL6(-10.5,-14.5) AL7(-9.5,-14.5) AL8(-8.5,-14.5) AL9(-7.5,-14.5) AL10(-6.5,-14.5) AL11(-5.5,-14.5) AL12(-4.5,-14.5) AL13(-3.5,-14.5) AL14(-2.5,-14.5) AL15(-1.5,-14.5) AL16(-0.5,-14.5) AL17(0.5,-14.5) AL18(1.5,-14.5) AL19(2.5,-14.5) AL20(3.5,-14.5) AL21(4.5,-14.5) AL22(5.5,-14.5) AL23(6.5,-14.5) AL24(7.5,-14.5) AL25(8.5,-14.5) AL26(9.5,-14.5) AL27(10.5,-14.5) AL28(11.5,-14.5) AL29(12.5,-14.5) AL30(13.5,-14.5) AL31(14.5,-14.5) AL32(15.5,-14.5) AM1(-15.5,-15.5) AM2(-14.5,-15.5) AM3(-13.5,-15.5) AM4(-12.5,-15.5) AM5(-11.5,-15.5) AM6(-10.5,-15.5) AM7(-9.5,-15.5) AM8(-8.5,-15.5) AM9(-7.5,-15.5) AM10(-6.5,-15.5) AM11(-5.5,-15.5) AM12(-4.5,-15.5) AM13(-3.5,-15.5) AM14(-2.5,-15.5) AM15(-1.5,-15.5) AM16(-0.5,-15.5) AM17(0.5,-15.5) AM18(1.5,-15.5) AM19(2.5,-15.5) AM20(3.5,-15.5) AM21(4.5,-15.5) AM22(5.5,-15.5) AM23(6.5,-15.5) AM24(7.5,-15.5) AM25(8.5,-15.5) AM26(9.5,-15.5) AM27(10.5,-15.5) AM28(11.5,-15.5) AM29(12.5,-15.5) AM30(13.5,-15.5) AM31(14.5,-15.5) AM32(15.5,-15.5) B1(-15.5,14.5) B2(-14.5,14.5) B3(-13.5,14.5) B4(-12.5,14.5) B5(-11.5,14.5) B6(-10.5,14.5) B7(-9.5,14.5) B8(-8.5,14.5) B9(-7.5,14.5) B10(-6.5,14.5) B11(-5.5,14.5) B12(-4.5,14.5) B13(-3.5,14.5) B14(-2.5,14.5) B15(-1.5,14.5) B16(-0.5,14.5) B17(0.5,14.5) B18(1.5,14.5) B19(2.5,14.5) B20(3.5,14.5) B21(4.5,14.5) B22(5.5,14.5) B23(6.5,14.5) B24(7.5,14.5) B25(8.5,14.5) B26(9.5,14.5) B27(10.5,14.5) B28(11.5,14.5) B29(12.5,14.5) B30(13.5,14.5) B31(14.5,14.5) B32(15.5,14.5) C1(-15.5,13.5) C2(-14.5,13.5) C3(-13.5,13.5) C4(-12.5,13.5) C5(-11.5,13.5) C6(-10.5,13.5) C7(-9.5,13.5) C8(-8.5,13.5) C9(-7.5,13.5) C10(-6.5,13.5) C11(-5.5,13.5) C12(-4.5,13.5) C13(-3.5,13.5) C14(-2.5,13.5) C15(-1.5,13.5) C16(-0.5,13.5) C17(0.5,13.5) C18(1.5,13.5) C19(2.5,13.5) C20(3.5,13.5) C21(4.5,13.5) C22(5.5,13.5) C23(6.5,13.5) C24(7.5,13.5) C25(8.5,13.5) C26(9.5,13.5) C27(10.5,13.5) C28(11.5,13.5) C29(12.5,13.5) C30(13.5,13.5) C31(14.5,13.5) C32(15.5,13.5) D1(-15.5,12.5) D2(-14.5,12.5) D3(-13.5,12.5) D4(-12.5,12.5) D5(-11.5,12.5) D6(-10.5,12.5) D7(-9.5,12.5) D8(-8.5,12.5) D9(-7.5,12.5) D10(-6.5,12.5) D11(-5.5,12.5) D12(-4.5,12.5) D13(-3.5,12.5) D14(-2.5,12.5) D15(-1.5,12.5) D16(-0.5,12.5) D17(0.5,12.5) D18(1.5,12.5) D19(2.5,12.5) D20(3.5,12.5) D21(4.5,12.5) D22(5.5,12.5) D23(6.5,12.5) D24(7.5,12.5) D25(8.5,12.5) D26(9.5,12.5) D27(10.5,12.5) D28(11.5,12.5) D29(12.5,12.5) D30(13.5,12.5) D31(14.5,12.5) D32(15.5,12.5) E1(-15.5,11.5) E2(-14.5,11.5) E3(-13.5,11.5) E4(-12.5,11.5) E5(-11.5,11.5) E6(-10.5,11.5) E7(-9.5,11.5) E8(-8.5,11.5) E9(-7.5,11.5) E10(-6.5,11.5) E11(-5.5,11.5) E12(-4.5,11.5) E13(-3.5,11.5) E14(-2.5,11.5) E15(-1.5,11.5) E16(-0.5,11.5) E17(0.5,11.5) E18(1.5,11.5) E19(2.5,11.5) E20(3.5,11.5) E21(4.5,11.5) E22(5.5,11.5) E23(6.5,11.5) E24(7.5,11.5) E25(8.5,11.5) E26(9.5,11.5) E27(10.5,11.5) E28(11.5,11.5) E29(12.5,11.5) E30(13.5,11.5) E31(14.5,11.5) E32(15.5,11.5) F1(-15.5,10.5) F2(-14.5,10.5) F3(-13.5,10.5) F4(-12.5,10.5) F5(-11.5,10.5) F6(-10.5,10.5) F7(-9.5,10.5) F8(-8.5,10.5) F9(-7.5,10.5) F10(-6.5,10.5) F11(-5.5,10.5) F12(-4.5,10.5) F13(-3.5,10.5) F14(-2.5,10.5) F15(-1.5,10.5) F16(-0.5,10.5) F17(0.5,10.5) F18(1.5,10.5) F19(2.5,10.5) F20(3.5,10.5) F21(4.5,10.5) F22(5.5,10.5) F23(6.5,10.5) F24(7.5,10.5) F25(8.5,10.5) F26(9.5,10.5) F27(10.5,10.5) F28(11.5,10.5) F29(12.5,10.5) F30(13.5,10.5) F31(14.5,10.5) F32(15.5,10.5) G1(-15.5,9.5) G2(-14.5,9.5) G3(-13.5,9.5) G4(-12.5,9.5) G5(-11.5,9.5) G6(-10.5,9.5) G7(-9.5,9.5) G8(-8.5,9.5) G9(-7.5,9.5) G10(-6.5,9.5) G11(-5.5,9.5) G12(-4.5,9.5) G13(-3.5,9.5) G14(-2.5,9.5) G15(-1.5,9.5) G16(-0.5,9.5) G17(0.5,9.5) G18(1.5,9.5) G19(2.5,9.5) G20(3.5,9.5) G21(4.5,9.5) G22(5.5,9.5) G23(6.5,9.5) G24(7.5,9.5) G25(8.5,9.5) G26(9.5,9.5) G27(10.5,9.5) G28(11.5,9.5) G29(12.5,9.5) G30(13.5,9.5) G31(14.5,9.5) G32(15.5,9.5) H1(-15.5,8.5) H2(-14.5,8.5) H3(-13.5,8.5) H4(-12.5,8.5) H5(-11.5,8.5) H6(-10.5,8.5) H7(-9.5,8.5) H8(-8.5,8.5) H25(8.5,8.5) H26(9.5,8.5) H27(10.5,8.5) H28(11.5,8.5) H29(12.5,8.5) H30(13.5,8.5) H31(14.5,8.5) H32(15.5,8.5) J1(-15.5,7.5) J2(-14.5,7.5) J3(-13.5,7.5) J4(-12.5,7.5) J5(-11.5,7.5) J6(-10.5,7.5) J7(-9.5,7.5) J8(-8.5,7.5) J25(8.5,7.5) J26(9.5,7.5) J27(10.5,7.5) J28(11.5,7.5) J29(12.5,7.5) J30(13.5,7.5) J31(14.5,7.5) J32(15.5,7.5) K1(-15.5,6.5) K2(-14.5,6.5) K3(-13.5,6.5) K4(-12.5,6.5) K5(-11.5,6.5) K6(-10.5,6.5) K7(-9.5,6.5) K8(-8.5,6.5) K25(8.5,6.5) K26(9.5,6.5) K27(10.5,6.5) K28(11.5,6.5) K29(12.5,6.5) K30(13.5,6.5) K31(14.5,6.5) K32(15.5,6.5) L1(-15.5,5.5) L2(-14.5,5.5) L3(-13.5,5.5) L4(-12.5,5.5) L5(-11.5,5.5) L6(-10.5,5.5) L7(-9.5,5.5) L8(-8.5,5.5) L25(8.5,5.5) L26(9.5,5.5) L27(10.5,5.5) L28(11.5,5.5) L29(12.5,5.5) L30(13.5,5.5) L31(14.5,5.5) L32(15.5,5.5) M1(-15.5,4.5) M2(-14.5,4.5) M3(-13.5,4.5) M4(-12.5,4.5) M5(-11.5,4.5) M6(-10.5,4.5) M7(-9.5,4.5) M8(-8.5,4.5) M14(-2.5,4.5) M20(3.5,4.5) M25(8.5,4.5) M26(9.5,4.5) M27(10.5,4.5) M28(11.5,4.5) M29(12.5,4.5) M30(13.5,4.5) M31(14.5,4.5) M32(15.5,4.5) N1(-15.5,3.5) N2(-14.5,3.5) N3(-13.5,3.5) N4(-12.5,3.5) N5(-11.5,3.5) N6(-10.5,3.5) N7(-9.5,3.5) N8(-8.5,3.5) N14(-2.5,3.5) N20(3.5,3.5) N25(8.5,3.5) N26(9.5,3.5) N27(10.5,3.5) N28(11.5,3.5) N29(12.5,3.5) N30(13.5,3.5) N31(14.5,3.5) N32(15.5,3.5) P1(-15.5,2.5) P2(-14.5,2.5) P3(-13.5,2.5) P4(-12.5,2.5) P5(-11.5,2.5) P6(-10.5,2.5) P7(-9.5,2.5) P8(-8.5,2.5) P14(-2.5,2.5) P20(3.5,2.5) P25(8.5,2.5) P26(9.5,2.5) P27(10.5,2.5) P28(11.5,2.5) P29(12.5,2.5) P30(13.5,2.5) P31(14.5,2.5) P32(15.5,2.5) R1(-15.5,1.5) R2(-14.5,1.5) R3(-13.5,1.5) R4(-12.5,1.5) R5(-11.5,1.5) R6(-10.5,1.5) R7(-9.5,1.5) R8(-8.5,1.5) R14(-2.5,1.5) R20(3.5,1.5) R25(8.5,1.5) R26(9.5,1.5) R27(10.5,1.5) R28(11.5,1.5) R29(12.5,1.5) R30(13.5,1.5) R31(14.5,1.5) R32(15.5,1.5) T1(-15.5,0.5) T2(-14.5,0.5) T3(-13.5,0.5) T4(-12.5,0.5) T5(-11.5,0.5) T6(-10.5,0.5) T7(-9.5,0.5) T8(-8.5,0.5) T14(-2.5,0.5) T20(3.5,0.5) T25(8.5,0.5) T26(9.5,0.5) T27(10.5,0.5) T28(11.5,0.5) T29(12.5,0.5) T30(13.5,0.5) T31(14.5,0.5) T32(15.5,0.5) U1(-15.5,-0.5) U2(-14.5,-0.5) U3(-13.5,-0.5) U4(-12.5,-0.5) U5(-11.5,-0.5) U6(-10.5,-0.5) U7(-9.5,-0.5) U8(-8.5,-0.5) U14(-2.5,-0.5) U20(3.5,-0.5) U25(8.5,-0.5) U26(9.5,-0.5) U27(10.5,-0.5) U28(11.5,-0.5) U29(12.5,-0.5) U30(13.5,-0.5) U31(14.5,-0.5) U32(15.5,-0.5) V1(-15.5,-1.5) V2(-14.5,-1.5) V3(-13.5,-1.5) V4(-12.5,-1.5) V5(-11.5,-1.5) V6(-10.5,-1.5) V7(-9.5,-1.5) V8(-8.5,-1.5) V14(-2.5,-1.5) V20(3.5,-1.5) V25(8.5,-1.5) V26(9.5,-1.5) V27(10.5,-1.5) V28(11.5,-1.5) V29(12.5,-1.5) V30(13.5,-1.5) V31(14.5,-1.5) V32(15.5,-1.5) W1(-15.5,-2.5) W2(-14.5,-2.5) W3(-13.5,-2.5) W4(-12.5,-2.5) W5(-11.5,-2.5) W6(-10.5,-2.5) W7(-9.5,-2.5) W8(-8.5,-2.5) W14(-2.5,-2.5) W20(3.5,-2.5) W25(8.5,-2.5) W26(9.5,-2.5) W27(10.5,-2.5) W28(11.5,-2.5) W29(12.5,-2.5) W30(13.5,-2.5) W31(14.5,-2.5) W32(15.5,-2.5) Y1(-15.5,-3.5) Y2(-14.5,-3.5) Y3(-13.5,-3.5) Y4(-12.5,-3.5) Y5(-11.5,-3.5) Y6(-10.5,-3.5) Y7(-9.5,-3.5) Y8(-8.5,-3.5) Y14(-2.5,-3.5) Y20(3.5,-3.5) Y25(8.5,-3.5) Y26(9.5,-3.5) Y27(10.5,-3.5) Y28(11.5,-3.5) Y29(12.5,-3.5) Y30(13.5,-3.5) Y31(14.5,-3.5) Y32(15.5,-3.5)
Top Overlay:
  circle w0.25: c-18.15,15.5 r0.125
  region: -16.5,17.5 -17.5,16.5 -17.5,17.5
  lines w0.2: -17.5,16.5 -16.5,17.5 ; -17.5,-17.5 17.5,-17.5 17.5,17.5 -17.5,17.5 -17.5,-17.5
Mechanical 13:
  lines w0.1: -17.5,-17.5 17.5,-17.5 17.5,17.5 -17.5,17.5 -17.5,-17.5
Mechanical 15:
  lines w0.1: -0.5,0 0.5,0 ; 0,-0.5 0,0.5 ; -18.5,-18.5 18.5,-18.5 18.5,18.5 -18.5,18.5 -18.5,-18.5
3D body: height 3.6, standoff 0, extent -17.5,-17.5 17.5,17.5

## GLK567 [mm] "567-Ball Ceramic Ball Grid Array 1.27 mm Pitch"
height 3.3
pads (567):
  round 0.6 smd: A3(-12.065,14.605) A4(-10.795,14.605) A5(-9.525,14.605) A6(-8.255,14.605) A7(-6.985,14.605) A8(-5.715,14.605) A9(-4.445,14.605) A10(-3.175,14.605) A11(-1.905,14.605) A12(-0.635,14.605) A13(0.635,14.605) A14(1.905,14.605) A15(3.175,14.605) A16(4.445,14.605) A17(5.715,14.605) A18(6.985,14.605) A19(8.255,14.605) A20(9.525,14.605) A21(10.795,14.605) A22(12.065,14.605) AA1(-14.605,-10.795) AA2(-13.335,-10.795) AA3(-12.065,-10.795) AA4(-10.795,-10.795) AA5(-9.525,-10.795) AA6(-8.255,-10.795) AA7(-6.985,-10.795) AA8(-5.715,-10.795) AA9(-4.445,-10.795) AA10(-3.175,-10.795) AA11(-1.905,-10.795) AA12(-0.635,-10.795) AA13(0.635,-10.795) AA14(1.905,-10.795) AA15(3.175,-10.795) AA16(4.445,-10.795) AA17(5.715,-10.795) AA18(6.985,-10.795) AA19(8.255,-10.795) AA20(9.525,-10.795) AA21(10.795,-10.795) AA22(12.065,-10.795) AA23(13.335,-10.795) AA24(14.605,-10.795) AB1(-14.605,-12.065) AB2(-13.335,-12.065) AB3(-12.065,-12.065) AB4(-10.795,-12.065) AB5(-9.525,-12.065) AB6(-8.255,-12.065) AB7(-6.985,-12.065) AB8(-5.715,-12.065) AB9(-4.445,-12.065) AB10(-3.175,-12.065) AB11(-1.905,-12.065) AB12(-0.635,-12.065) AB13(0.635,-12.065) AB14(1.905,-12.065) AB15(3.175,-12.065) AB16(4.445,-12.065) AB17(5.715,-12.065) AB18(6.985,-12.065) AB19(8.255,-12.065) AB20(9.525,-12.065) AB21(10.795,-12.065) AB22(12.065,-12.065) AB23(13.335,-12.065) AB24(14.605,-12.065) AC1(-14.605,-13.335) AC2(-13.335,-13.335) AC3(-12.065,-13.335) AC4(-10.795,-13.335) AC5(-9.525,-13.335) AC6(-8.255,-13.335) AC7(-6.985,-13.335) AC8(-5.715,-13.335) AC9(-4.445,-13.335) AC10(-3.175,-13.335) AC11(-1.905,-13.335) AC12(-0.635,-13.335) AC13(0.635,-13.335) AC14(1.905,-13.335) AC15(3.175,-13.335) AC16(4.445,-13.335) AC17(5.715,-13.335) AC18(6.985,-13.335) AC19(8.255,-13.335) AC20(9.525,-13.335) AC21(10.795,-13.335) AC22(12.065,-13.335) AC23(13.335,-13.335) AC24(14.605,-13.335) AD3(-12.065,-14.605) AD4(-10.795,-14.605) AD5(-9.525,-14.605) AD6(-8.255,-14.605) AD7(-6.985,-14.605) AD8(-5.715,-14.605) AD9(-4.445,-14.605) AD10(-3.175,-14.605) AD11(-1.905,-14.605) AD12(-0.635,-14.605) AD13(0.635,-14.605) AD14(1.905,-14.605) AD15(3.175,-14.605) AD16(4.445,-14.605) AD17(5.715,-14.605) AD18(6.985,-14.605) AD19(8.255,-14.605) AD20(9.525,-14.605) AD21(10.795,-14.605) AD22(12.065,-14.605) B2(-13.335,13.335) B3(-12.065,13.335) B4(-10.795,13.335) B5(-9.525,13.335) B6(-8.255,13.335) B7(-6.985,13.335) B8(-5.715,13.335) B9(-4.445,13.335) B10(-3.175,13.335) B11(-1.905,13.335) B12(-0.635,13.335) B13(0.635,13.335) B14(1.905,13.335) B15(3.175,13.335) B16(4.445,13.335) B17(5.715,13.335) B18(6.985,13.335) B19(8.255,13.335) B20(9.525,13.335) B21(10.795,13.335) B22(12.065,13.335) B23(13.335,13.335) B24(14.605,13.335) C1(-14.605,12.065) C2(-13.335,12.065) C3(-12.065,12.065) C4(-10.795,12.065) C5(-9.525,12.065) C6(-8.255,12.065) C7(-6.985,12.065) C8(-5.715,12.065) C9(-4.445,12.065) C10(-3.175,12.065) C11(-1.905,12.065) C12(-0.635,12.065) C13(0.635,12.065) C14(1.905,12.065) C15(3.175,12.065) C16(4.445,12.065) C17(5.715,12.065) C18(6.985,12.065) C19(8.255,12.065) C20(9.525,12.065) C21(10.795,12.065) C22(12.065,12.065) C23(13.335,12.065) C24(14.605,12.065) D1(-14.605,10.795) D2(-13.335,10.795) D3(-12.065,10.795) D4(-10.795,10.795) D5(-9.525,10.795) D6(-8.255,10.795) D7(-6.985,10.795) D8(-5.715,10.795) D9(-4.445,10.795) D10(-3.175,10.795) D11(-1.905,10.795) D12(-0.635,10.795) D13(0.635,10.795) D14(1.905,10.795) D15(3.175,10.795) D16(4.445,10.795) D17(5.715,10.795) D18(6.985,10.795) D19(8.255,10.795) D20(9.525,10.795) D21(10.795,10.795) D22(12.065,10.795) D23(13.335,10.795) D24(14.605,10.795) E1(-14.605,9.525) E2(-13.335,9.525) E3(-12.065,9.525) E4(-10.795,9.525) E5(-9.525,9.525) E6(-8.255,9.525) E7(-6.985,9.525) E8(-5.715,9.525) E9(-4.445,9.525) E10(-3.175,9.525) E11(-1.905,9.525) E12(-0.635,9.525) E13(0.635,9.525) E14(1.905,9.525) E15(3.175,9.525) E16(4.445,9.525) E17(5.715,9.525) E18(6.985,9.525) E19(8.255,9.525) E20(9.525,9.525) E21(10.795,9.525) E22(12.065,9.525) E23(13.335,9.525) E24(14.605,9.525) F1(-14.605,8.255) F2(-13.335,8.255) F3(-12.065,8.255) F4(-10.795,8.255) F5(-9.525,8.255) F6(-8.255,8.255) F7(-6.985,8.255) F8(-5.715,8.255) F9(-4.445,8.255) F10(-3.175,8.255) F11(-1.905,8.255) F12(-0.635,8.255) F13(0.635,8.255) F14(1.905,8.255) F15(3.175,8.255) F16(4.445,8.255) F17(5.715,8.255) F18(6.985,8.255) F19(8.255,8.255) F20(9.525,8.255) F21(10.795,8.255) F22(12.065,8.255) F23(13.335,8.255) F24(14.605,8.255) G1(-14.605,6.985) G2(-13.335,6.985) G3(-12.065,6.985) G4(-10.795,6.985) G5(-9.525,6.985) G6(-8.255,6.985) G7(-6.985,6.985) G8(-5.715,6.985) G9(-4.445,6.985) G10(-3.175,6.985) G11(-1.905,6.985) G12(-0.635,6.985) G13(0.635,6.985) G14(1.905,6.985) G15(3.175,6.985) G16(4.445,6.985) G17(5.715,6.985) G18(6.985,6.985) G19(8.255,6.985) G20(9.525,6.985) G21(10.795,6.985) G22(12.065,6.985) G23(13.335,6.985) G24(14.605,6.985) H1(-14.605,5.715) H2(-13.335,5.715) H3(-12.065,5.715) H4(-10.795,5.715) H5(-9.525,5.715) H6(-8.255,5.715) H7(-6.985,5.715) H8(-5.715,5.715) H9(-4.445,5.715) H10(-3.175,5.715) H11(-1.905,5.715) H12(-0.635,5.715) H13(0.635,5.715) H14(1.905,5.715) H15(3.175,5.715) H16(4.445,5.715) H17(5.715,5.715) H18(6.985,5.715) H19(8.255,5.715) H20(9.525,5.715) H21(10.795,5.715) H22(12.065,5.715) H23(13.335,5.715) H24(14.605,5.715) J1(-14.605,4.445) J2(-13.335,4.445) J3(-12.065,4.445) J4(-10.795,4.445) J5(-9.525,4.445) J6(-8.255,4.445) J7(-6.985,4.445) J8(-5.715,4.445) J9(-4.445,4.445) J10(-3.175,4.445) J11(-1.905,4.445) J12(-0.635,4.445) J13(0.635,4.445) J14(1.905,4.445) J15(3.175,4.445) J16(4.445,4.445) J17(5.715,4.445) J18(6.985,4.445) J19(8.255,4.445) J20(9.525,4.445) J21(10.795,4.445) J22(12.065,4.445) J23(13.335,4.445) J24(14.605,4.445) K1(-14.605,3.175) K2(-13.335,3.175) K3(-12.065,3.175) K4(-10.795,3.175) K5(-9.525,3.175) K6(-8.255,3.175) K7(-6.985,3.175) K8(-5.715,3.175) K9(-4.445,3.175) K10(-3.175,3.175) K11(-1.905,3.175) K12(-0.635,3.175) K13(0.635,3.175) K14(1.905,3.175) K15(3.175,3.175) K16(4.445,3.175) K17(5.715,3.175) K18(6.985,3.175) K19(8.255,3.175) K20(9.525,3.175) K21(10.795,3.175) K22(12.065,3.175) K23(13.335,3.175) K24(14.605,3.175) L1(-14.605,1.905) L2(-13.335,1.905) L3(-12.065,1.905) L4(-10.795,1.905) L5(-9.525,1.905) L6(-8.255,1.905) L7(-6.985,1.905) L8(-5.715,1.905) L9(-4.445,1.905) L10(-3.175,1.905) L11(-1.905,1.905) L12(-0.635,1.905) L13(0.635,1.905) L14(1.905,1.905) L15(3.175,1.905) L16(4.445,1.905) L17(5.715,1.905) L18(6.985,1.905) L19(8.255,1.905) L20(9.525,1.905) L21(10.795,1.905) L22(12.065,1.905) L23(13.335,1.905) L24(14.605,1.905) M1(-14.605,0.635) M2(-13.335,0.635) M3(-12.065,0.635) M4(-10.795,0.635) M5(-9.525,0.635) M6(-8.255,0.635) M7(-6.985,0.635) M8(-5.715,0.635) M9(-4.445,0.635) M10(-3.175,0.635) M11(-1.905,0.635) M12(-0.635,0.635) M13(0.635,0.635) M14(1.905,0.635) M15(3.175,0.635) M16(4.445,0.635) M17(5.715,0.635) M18(6.985,0.635) M19(8.255,0.635) M20(9.525,0.635) M21(10.795,0.635) M22(12.065,0.635) M23(13.335,0.635) M24(14.605,0.635) N1(-14.605,-0.635) N2(-13.335,-0.635) N3(-12.065,-0.635) N4(-10.795,-0.635) N5(-9.525,-0.635) N6(-8.255,-0.635) N7(-6.985,-0.635) N8(-5.715,-0.635) N9(-4.445,-0.635) N10(-3.175,-0.635) N11(-1.905,-0.635) N12(-0.635,-0.635) N13(0.635,-0.635) N14(1.905,-0.635) N15(3.175,-0.635) N16(4.445,-0.635) N17(5.715,-0.635) N18(6.985,-0.635) N19(8.255,-0.635) N20(9.525,-0.635) N21(10.795,-0.635) N22(12.065,-0.635) N23(13.335,-0.635) N24(14.605,-0.635) P1(-14.605,-1.905) P2(-13.335,-1.905) P3(-12.065,-1.905) P4(-10.795,-1.905) P5(-9.525,-1.905) P6(-8.255,-1.905) P7(-6.985,-1.905) P8(-5.715,-1.905) P9(-4.445,-1.905) P10(-3.175,-1.905) P11(-1.905,-1.905) P12(-0.635,-1.905) P13(0.635,-1.905) P14(1.905,-1.905) P15(3.175,-1.905) P16(4.445,-1.905) P17(5.715,-1.905) P18(6.985,-1.905) P19(8.255,-1.905) P20(9.525,-1.905) P21(10.795,-1.905) P22(12.065,-1.905) P23(13.335,-1.905) P24(14.605,-1.905) R1(-14.605,-3.175) R2(-13.335,-3.175) R3(-12.065,-3.175) R4(-10.795,-3.175) R5(-9.525,-3.175) R6(-8.255,-3.175) R7(-6.985,-3.175) R8(-5.715,-3.175) R9(-4.445,-3.175) R10(-3.175,-3.175) R11(-1.905,-3.175) R12(-0.635,-3.175) R13(0.635,-3.175) R14(1.905,-3.175) R15(3.175,-3.175) R16(4.445,-3.175) R17(5.715,-3.175) R18(6.985,-3.175) R19(8.255,-3.175) R20(9.525,-3.175) R21(10.795,-3.175) R22(12.065,-3.175) R23(13.335,-3.175) R24(14.605,-3.175) T1(-14.605,-4.445) T2(-13.335,-4.445) T3(-12.065,-4.445) T4(-10.795,-4.445) T5(-9.525,-4.445) T6(-8.255,-4.445) T7(-6.985,-4.445) T8(-5.715,-4.445) T9(-4.445,-4.445) T10(-3.175,-4.445) T11(-1.905,-4.445) T12(-0.635,-4.445) T13(0.635,-4.445) T14(1.905,-4.445) T15(3.175,-4.445) T16(4.445,-4.445) T17(5.715,-4.445) T18(6.985,-4.445) T19(8.255,-4.445) T20(9.525,-4.445) T21(10.795,-4.445) T22(12.065,-4.445) T23(13.335,-4.445) T24(14.605,-4.445) U1(-14.605,-5.715) U2(-13.335,-5.715) U3(-12.065,-5.715) U4(-10.795,-5.715) U5(-9.525,-5.715) U6(-8.255,-5.715) U7(-6.985,-5.715) U8(-5.715,-5.715) U9(-4.445,-5.715) U10(-3.175,-5.715) U11(-1.905,-5.715) U12(-0.635,-5.715) U13(0.635,-5.715) U14(1.905,-5.715) U15(3.175,-5.715) U16(4.445,-5.715) U17(5.715,-5.715) U18(6.985,-5.715) U19(8.255,-5.715) U20(9.525,-5.715) U21(10.795,-5.715) U22(12.065,-5.715) U23(13.335,-5.715) U24(14.605,-5.715) V1(-14.605,-6.985) V2(-13.335,-6.985) V3(-12.065,-6.985) V4(-10.795,-6.985) V5(-9.525,-6.985) V6(-8.255,-6.985) V7(-6.985,-6.985) V8(-5.715,-6.985) V9(-4.445,-6.985) V10(-3.175,-6.985) V11(-1.905,-6.985) V12(-0.635,-6.985) V13(0.635,-6.985) V14(1.905,-6.985) V15(3.175,-6.985) V16(4.445,-6.985) V17(5.715,-6.985) V18(6.985,-6.985) V19(8.255,-6.985) V20(9.525,-6.985) V21(10.795,-6.985) V22(12.065,-6.985) V23(13.335,-6.985) V24(14.605,-6.985) W1(-14.605,-8.255) W2(-13.335,-8.255) W3(-12.065,-8.255) W4(-10.795,-8.255) W5(-9.525,-8.255) W6(-8.255,-8.255) W7(-6.985,-8.255) W8(-5.715,-8.255) W9(-4.445,-8.255) W10(-3.175,-8.255) W11(-1.905,-8.255) W12(-0.635,-8.255) W13(0.635,-8.255) W14(1.905,-8.255) W15(3.175,-8.255) W16(4.445,-8.255) W17(5.715,-8.255) W18(6.985,-8.255) W19(8.255,-8.255) W20(9.525,-8.255) W21(10.795,-8.255) W22(12.065,-8.255) W23(13.335,-8.255) W24(14.605,-8.255) Y1(-14.605,-9.525) Y2(-13.335,-9.525) Y3(-12.065,-9.525) Y4(-10.795,-9.525) Y5(-9.525,-9.525) Y6(-8.255,-9.525) Y7(-6.985,-9.525) Y8(-5.715,-9.525) Y9(-4.445,-9.525) Y10(-3.175,-9.525) Y11(-1.905,-9.525) Y12(-0.635,-9.525) Y13(0.635,-9.525) Y14(1.905,-9.525) Y15(3.175,-9.525) Y16(4.445,-9.525) Y17(5.715,-9.525) Y18(6.985,-9.525) Y19(8.255,-9.525) Y20(9.525,-9.525) Y21(10.795,-9.525) Y22(12.065,-9.525) Y23(13.335,-9.525) Y24(14.605,-9.525)
Top Overlay:
  circle w0.25: c-16.15,14.605 r0.125
  region: -14.7,15.5 -15.5,14.7 -15.5,15.5
  lines w0.2: -15.5,14.7 -14.7,15.5 ; -15.5,-15.5 15.5,-15.5 15.5,15.5 -15.5,15.5 -15.5,-15.5
Mechanical 13:
  lines w0.1: -15.5,-15.5 15.5,-15.5 15.5,15.5 -15.5,15.5 -15.5,-15.5
Mechanical 15:
  lines w0.1: -0.5,0 0.5,0 ; 0,-0.5 0,0.5 ; -16.5,-16.5 16.5,-16.5 16.5,16.5 -16.5,16.5 -16.5,-16.5
3D body: height 3.3, standoff 0, extent -15.5,-15.5 15.5,15.5